# Altium footprint library VCNL4040M3OE.PcbLib: 1 footprints
Each footprint in its own frame and in the unit in brackets; x right, y up, seen from the top. Pads: shape width x height; smd on the part's side, far side on the other; paste and mask are expansions set on the pad; w line width, h text height; cw(c..) or ccw(c..) is an arc to the next point about the centre after c.
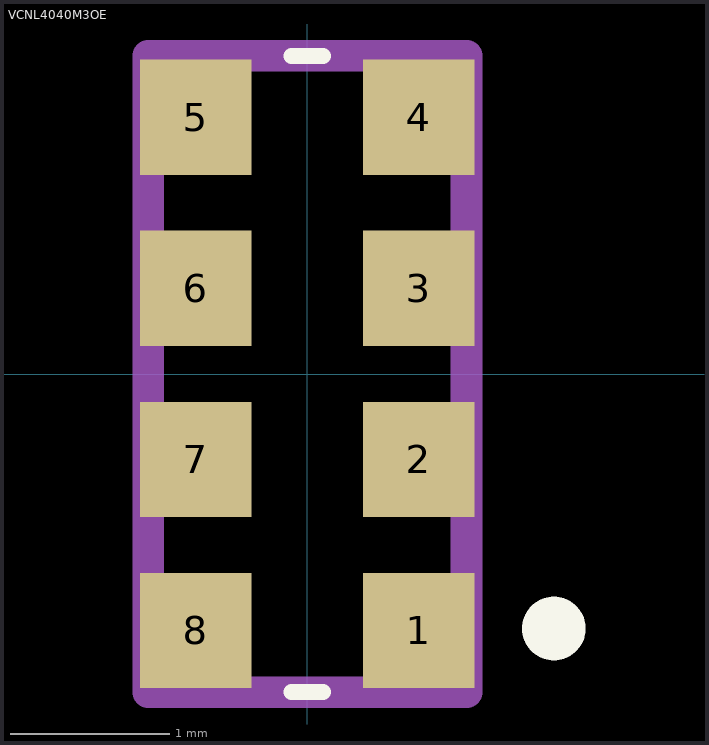
[diagram p0: the footprint, top view; thin cyan lines are the x and y axes]

## VCNL4040M3OE [mm]
pads (8):
  rect 0.7x0.725 smd: 1(0.7,-1.612) 2(0.7,-0.537) 3(0.7,0.538) 4(0.7,1.613) 5(-0.7,1.613) 6(-0.7,0.538) 7(-0.7,-0.537) 8(-0.7,-1.612)
Top Overlay:
  lines w0.1: -0.1,-2 0.1,-2 ; -0.1,2 0.1,2
  lines w0.2: 1.55,-1.7 cw(c1.55,-1.6) 1.55,-1.5 cw(c1.55,-1.6) 1.55,-1.7
Mechanical 13:
  lines w0.2: -1,-2 1,-2 1,2 -1,2 -1,-2
3D body "sensor proximidad VCNL4040.STEP": height 1.1, standoff 0, extent -1,-2 1,2